# Altium schematic symbol library Amphenol.SchLib: 1 symbol
Pins are listed as number, name and electrical type; pins without a type are passive.

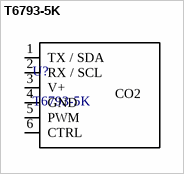
[diagram p0: symbol T6793-5K]

## T6793-5K
designator U?
CO2 MODULE; Manufacturer: Amphenol Advanced Sensors; Part Number: T6793-5K; Price 1: 32.73; Price 100: 24.97; Price 1000: 24.83
pins: 1 TX / SDA, 2 RX / SCL, 3 V+, 4 GND, 5 PWM, 6 CTRL
text: CO2